# Altium schematic symbol library BAV99.Schlib: 1 symbol
Pins are listed as number, name and electrical type; pins without a type are passive.

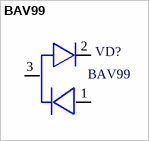
[diagram p0: symbol BAV99]

## BAV99
designator VD?
Назначение: Диодная сборка; Наименование: BAV99
footprint SOT95P240 (SOT23, 3-Leads, Body 2.9x1.3mm, Pitch 0.95mm, Lead Span 2.4mm, IPC High Density)
pins: 1 5, 2 4, 3 6